# Altium footprint library Molex Footprints.PcbLib: 498 footprints (part 15 of 32)
Each footprint in its own frame and in the unit in brackets; x right, y up, seen from the top. Pads: shape width x height; smd on the part's side, far side on the other; paste and mask are expansions set on the pad; w line width, h text height; cw(c..) or ccw(c..) is an arc to the next point about the centre after c.
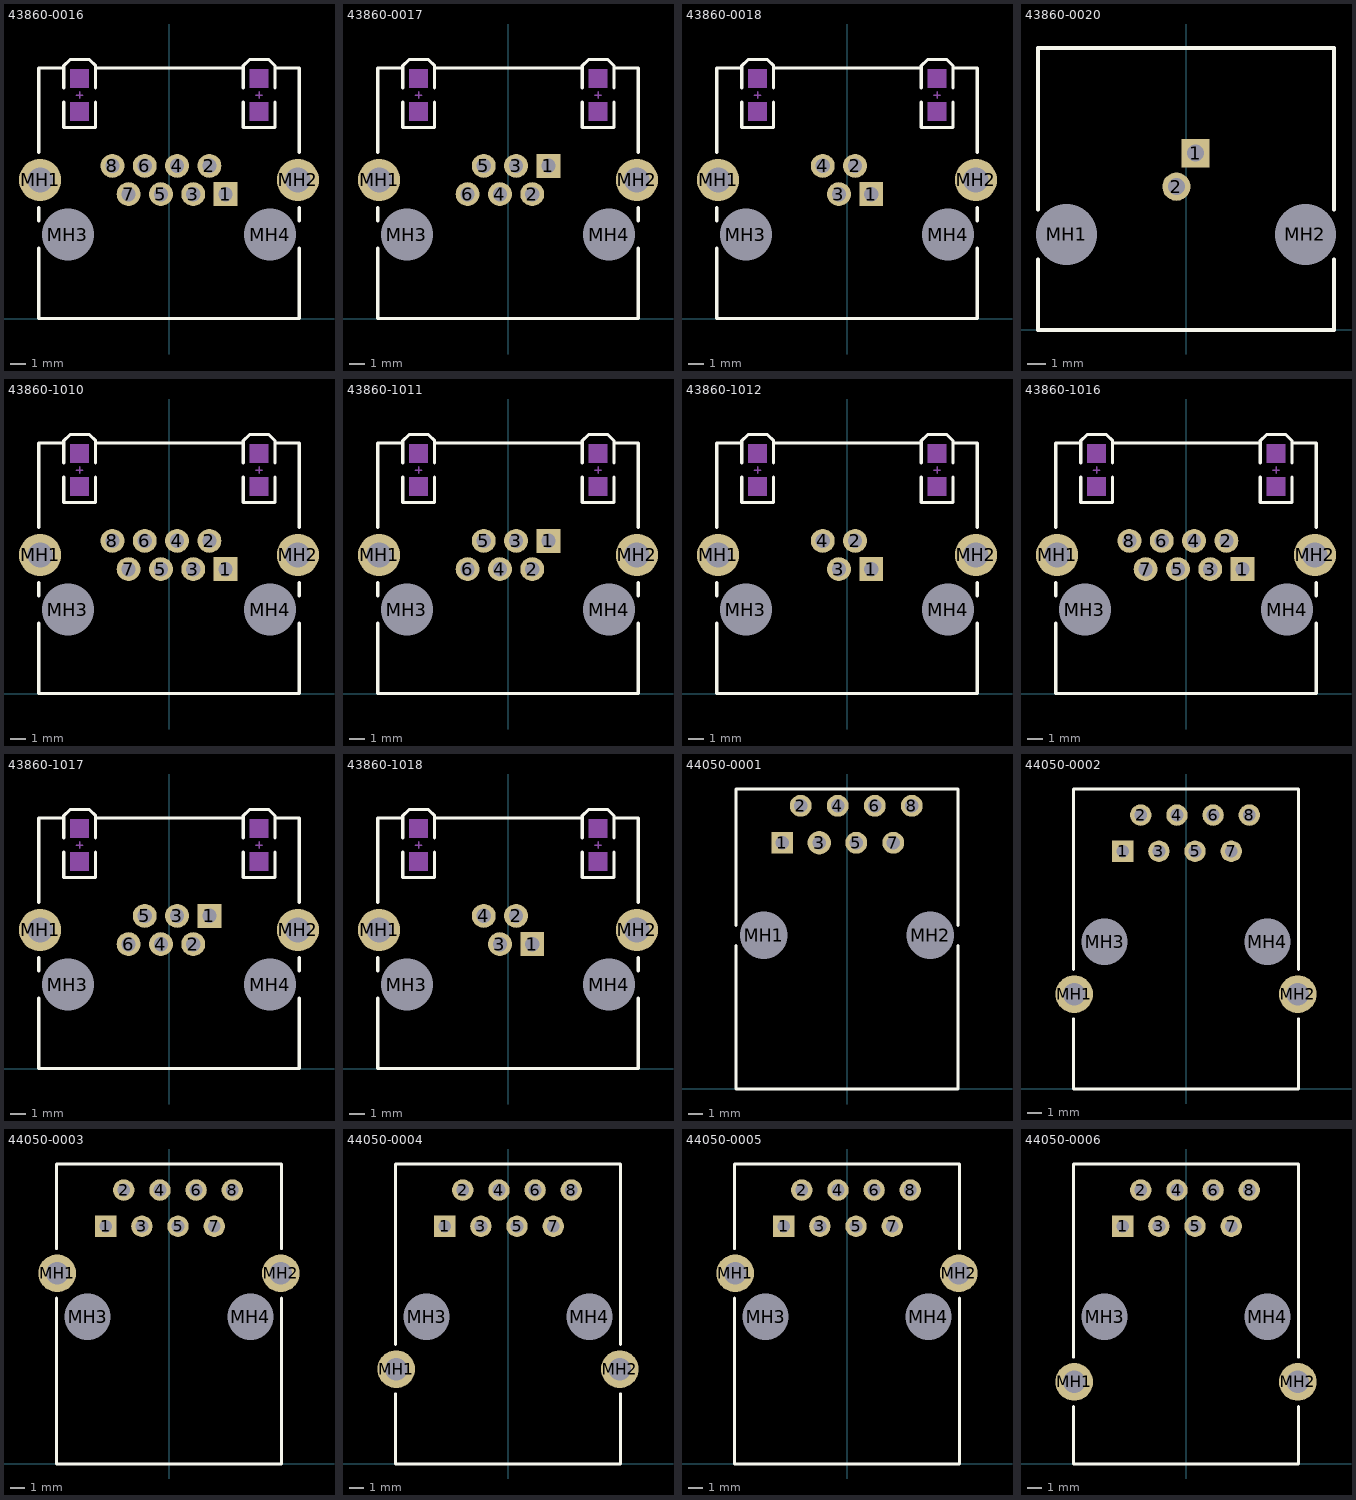
[diagram p14: the footprints below, top view; thin cyan lines are the x and y axes]

## 43860-0016 [mm] "Connector; PCB Jack, Thru-Hole; 1-Port, 8 Positions, 8 Loaded; Shielded with Lightpipes; Right Angle"
height 13.53
pads (12):
  rect 1.5x1.5 hole 0.9: 1(3.556,7.82)
  round 1.5 hole 0.9: 2(2.54,9.598) 3(1.524,7.82) 4(0.508,9.598) 5(-0.508,7.82) 6(-1.524,9.598) 7(-2.54,7.82) 8(-3.556,9.598)
  round 2.65 hole 1.6: MH1(-8.103,8.709) MH2(8.103,8.709)
  round 2.95 hole 3.25 unplated: MH3(-6.35,5.28) MH4(6.35,5.28)
Top Overlay:
  lines w0.2: -8.19,4.434 -8.19,0 8.19,0 8.19,4.434 ; -8.19,6.126 -8.19,6.986 ; -8.19,10.432 -8.19,15.75 -6.613,15.75 ; -6.613,13.602 -6.613,12.002 -4.613,12.002 -4.613,13.602 ; -6.613,14.484 -6.613,15.884 -6.213,16.284 -5.013,16.284 -4.613,15.884 -4.613,14.484 ; -4.613,15.75 4.664,15.75 ; 4.664,13.602 4.664,12.002 6.664,12.002 6.664,13.602 ; 4.664,14.484 4.664,15.884 5.064,16.284 6.264,16.284 6.664,15.884 6.664,14.484 ; 6.664,15.75 8.19,15.75 8.19,10.432 ; 8.19,6.126 8.19,6.986
Mechanical 1:
  rectangle: -6.213,12.402 -5.013,13.602
  rectangle: -6.213,14.484 -5.013,15.684
  rectangle: 5.064,12.402 6.264,13.602
  rectangle: 5.064,14.484 6.264,15.684
  lines w0.1: -5.813,14.043 -5.613,14.043 ; -5.613,13.843 -5.613,14.043 ; -5.613,14.243 -5.613,14.043 ; -5.413,14.043 -5.613,14.043 ; 5.464,14.043 5.664,14.043 ; 5.664,13.843 5.664,14.043 ; 5.664,14.243 5.664,14.043 ; 5.864,14.043 5.664,14.043

## 43860-0017 [mm] "Connector; PCB Jack, Thru-Hole; 1-Port, 6 Positions, 6 Loaded; Shielded with Lightpipes; Right Angle"
height 13.53
pads (10):
  rect 1.5x1.5 hole 0.9: 1(2.54,9.598)
  round 1.5 hole 0.9: 2(1.524,7.82) 3(0.508,9.598) 4(-0.508,7.82) 5(-1.524,9.598) 6(-2.54,7.82)
  round 2.65 hole 1.6: MH1(-8.103,8.709) MH2(8.103,8.709)
  round 2.95 hole 3.25 unplated: MH3(-6.35,5.28) MH4(6.35,5.28)
Top Overlay:
  lines w0.2: -8.19,4.434 -8.19,0 8.19,0 8.19,4.434 ; -8.19,6.126 -8.19,6.986 ; -8.19,10.432 -8.19,15.75 -6.613,15.75 ; -6.613,13.602 -6.613,12.002 -4.613,12.002 -4.613,13.602 ; -6.613,14.484 -6.613,15.884 -6.213,16.284 -5.013,16.284 -4.613,15.884 -4.613,14.484 ; -4.613,15.75 4.664,15.75 ; 4.664,13.602 4.664,12.002 6.664,12.002 6.664,13.602 ; 4.664,14.484 4.664,15.884 5.064,16.284 6.264,16.284 6.664,15.884 6.664,14.484 ; 6.664,15.75 8.19,15.75 8.19,10.432 ; 8.19,6.126 8.19,6.986
Mechanical 1:
  rectangle: 5.064,14.484 6.264,15.684
  rectangle: 5.064,12.402 6.264,13.602
  rectangle: -6.213,14.484 -5.013,15.684
  rectangle: -6.213,12.402 -5.013,13.602
  lines w0.1: -5.813,14.043 -5.613,14.043 ; -5.613,13.843 -5.613,14.043 ; -5.613,14.243 -5.613,14.043 ; -5.413,14.043 -5.613,14.043 ; 5.464,14.043 5.664,14.043 ; 5.664,13.843 5.664,14.043 ; 5.664,14.243 5.664,14.043 ; 5.864,14.043 5.664,14.043

## 43860-0018 [mm] "Connector; PCB Jack, Thru-Hole; 1-Port, 6 Positions, 4 Loaded; Shielded with Lightpipes; Right Angle"
height 13.53
pads (8):
  rect 1.5x1.5 hole 0.9: 1(1.524,7.82)
  round 1.5 hole 0.9: 2(0.508,9.598) 3(-0.508,7.82) 4(-1.524,9.598)
  round 2.65 hole 1.6: MH1(-8.103,8.709) MH2(8.103,8.709)
  round 2.95 hole 3.25 unplated: MH3(-6.35,5.28) MH4(6.35,5.28)
Top Overlay:
  lines w0.2: -8.19,4.434 -8.19,0 8.19,0 8.19,4.434 ; -8.19,6.126 -8.19,6.986 ; -8.19,10.432 -8.19,15.75 -6.613,15.75 ; -6.613,13.602 -6.613,12.002 -4.613,12.002 -4.613,13.602 ; -6.613,14.484 -6.613,15.884 -6.213,16.284 -5.013,16.284 -4.613,15.884 -4.613,14.484 ; -4.613,15.75 4.664,15.75 ; 4.664,13.602 4.664,12.002 6.664,12.002 6.664,13.602 ; 4.664,14.484 4.664,15.884 5.064,16.284 6.264,16.284 6.664,15.884 6.664,14.484 ; 6.664,15.75 8.19,15.75 8.19,10.432 ; 8.19,6.126 8.19,6.986
Mechanical 1:
  rectangle: 5.064,14.484 6.264,15.684
  rectangle: 5.064,12.402 6.264,13.602
  rectangle: -6.213,14.484 -5.013,15.684
  rectangle: -6.213,12.402 -5.013,13.602
  lines w0.1: -5.813,14.043 -5.613,14.043 ; -5.613,13.843 -5.613,14.043 ; -5.613,14.243 -5.613,14.043 ; -5.413,14.043 -5.613,14.043 ; 5.464,14.043 5.664,14.043 ; 5.664,13.843 5.664,14.043 ; 5.664,14.243 5.664,14.043 ; 5.864,14.043 5.664,14.043

## 43860-0020 [mm] "Connector; PCB Jack, Thru-Hole; 1-Port, 6 Positions, 2 Loaded; Unshielded without Lightpipes; Right Angle"
height 13.21
pads (4):
  rect 1.5x1.5 hole 0.9: 1(0.508,9.398)
  round 1.5 hole 0.9: 2(-0.508,7.62)
  round 2.95 hole 3.25 unplated: MH1(-6.35,5.08) MH2(6.35,5.08)
Top Overlay:
  lines w0.2: -7.875,3.748 -7.875,0 7.875,0 7.875,3.748 ; -7.875,6.412 -7.875,14.99 7.875,14.99 7.875,6.412

## 43860-1010 [mm] "Connector; PCB Jack, Thru-Hole; 1-Port, 8 Positions, 8 Loaded; Shielded with Lightpipes; Right Angle"
height 13.54
pads (12):
  rect 1.5x1.5 hole 0.9: 1(3.556,7.82)
  round 1.5 hole 0.9: 2(2.54,9.598) 3(1.524,7.82) 4(0.508,9.598) 5(-0.508,7.82) 6(-1.524,9.598) 7(-2.54,7.82) 8(-3.556,9.598)
  round 2.65 hole 1.6: MH1(-8.103,8.709) MH2(8.103,8.709)
  round 2.95 hole 3.25 unplated: MH3(-6.35,5.28) MH4(6.35,5.28)
Top Overlay:
  lines w0.2: -8.19,4.434 -8.19,0 8.19,0 8.19,4.434 ; -8.19,6.126 -8.19,6.986 ; -8.19,10.432 -8.19,15.75 -6.613,15.75 ; -6.613,13.602 -6.613,12.002 -4.613,12.002 -4.613,13.602 ; -6.613,14.484 -6.613,15.884 -6.213,16.284 -5.013,16.284 -4.613,15.884 -4.613,14.484 ; -4.613,15.75 4.664,15.75 ; 4.664,13.602 4.664,12.002 6.664,12.002 6.664,13.602 ; 4.664,14.484 4.664,15.884 5.064,16.284 6.264,16.284 6.664,15.884 6.664,14.484 ; 6.664,15.75 8.19,15.75 8.19,10.432 ; 8.19,6.126 8.19,6.986
Mechanical 1:
  rectangle: -6.213,12.402 -5.013,13.602
  rectangle: -6.213,14.484 -5.013,15.684
  rectangle: 5.064,12.402 6.264,13.602
  rectangle: 5.064,14.484 6.264,15.684
  lines w0.1: -5.813,14.043 -5.613,14.043 ; -5.613,13.843 -5.613,14.043 ; -5.613,14.243 -5.613,14.043 ; -5.413,14.043 -5.613,14.043 ; 5.464,14.043 5.664,14.043 ; 5.664,13.843 5.664,14.043 ; 5.664,14.243 5.664,14.043 ; 5.864,14.043 5.664,14.043

## 43860-1011 [mm] "Connector; PCB Jack, Thru-Hole; 1-Port, 6 Positions, 6 Loaded; Shielded with Lightpipes; Right Angle"
height 13.54
pads (10):
  rect 1.5x1.5 hole 0.9: 1(2.54,9.598)
  round 1.5 hole 0.9: 2(1.524,7.82) 3(0.508,9.598) 4(-0.508,7.82) 5(-1.524,9.598) 6(-2.54,7.82)
  round 2.65 hole 1.6: MH1(-8.103,8.709) MH2(8.103,8.709)
  round 2.95 hole 3.25 unplated: MH3(-6.35,5.28) MH4(6.35,5.28)
Top Overlay:
  lines w0.2: -8.19,4.434 -8.19,0 8.19,0 8.19,4.434 ; -8.19,6.126 -8.19,6.986 ; -8.19,10.432 -8.19,15.75 -6.613,15.75 ; -6.613,13.602 -6.613,12.002 -4.613,12.002 -4.613,13.602 ; -6.613,14.484 -6.613,15.884 -6.213,16.284 -5.013,16.284 -4.613,15.884 -4.613,14.484 ; -4.613,15.75 4.664,15.75 ; 4.664,13.602 4.664,12.002 6.664,12.002 6.664,13.602 ; 4.664,14.484 4.664,15.884 5.064,16.284 6.264,16.284 6.664,15.884 6.664,14.484 ; 6.664,15.75 8.19,15.75 8.19,10.432 ; 8.19,6.126 8.19,6.986
Mechanical 1:
  rectangle: 5.064,14.484 6.264,15.684
  rectangle: 5.064,12.402 6.264,13.602
  rectangle: -6.213,14.484 -5.013,15.684
  rectangle: -6.213,12.402 -5.013,13.602
  lines w0.1: -5.813,14.043 -5.613,14.043 ; -5.613,13.843 -5.613,14.043 ; -5.613,14.243 -5.613,14.043 ; -5.413,14.043 -5.613,14.043 ; 5.464,14.043 5.664,14.043 ; 5.664,13.843 5.664,14.043 ; 5.664,14.243 5.664,14.043 ; 5.864,14.043 5.664,14.043

## 43860-1012 [mm] "Connector; PCB Jack, Thru-Hole; 1-Port, 6 Positions, 4 Loaded; Shielded with Lightpipes; Right Angle"
height 13.54
pads (8):
  rect 1.5x1.5 hole 0.9: 1(1.524,7.82)
  round 1.5 hole 0.9: 2(0.508,9.598) 3(-0.508,7.82) 4(-1.524,9.598)
  round 2.65 hole 1.6: MH1(-8.103,8.709) MH2(8.103,8.709)
  round 2.95 hole 3.25 unplated: MH3(-6.35,5.28) MH4(6.35,5.28)
Top Overlay:
  lines w0.2: -8.19,4.434 -8.19,0 8.19,0 8.19,4.434 ; -8.19,6.126 -8.19,6.986 ; -8.19,10.432 -8.19,15.75 -6.613,15.75 ; -6.613,13.602 -6.613,12.002 -4.613,12.002 -4.613,13.602 ; -6.613,14.484 -6.613,15.884 -6.213,16.284 -5.013,16.284 -4.613,15.884 -4.613,14.484 ; -4.613,15.75 4.664,15.75 ; 4.664,13.602 4.664,12.002 6.664,12.002 6.664,13.602 ; 4.664,14.484 4.664,15.884 5.064,16.284 6.264,16.284 6.664,15.884 6.664,14.484 ; 6.664,15.75 8.19,15.75 8.19,10.432 ; 8.19,6.126 8.19,6.986
Mechanical 1:
  rectangle: 5.064,14.484 6.264,15.684
  rectangle: 5.064,12.402 6.264,13.602
  rectangle: -6.213,14.484 -5.013,15.684
  rectangle: -6.213,12.402 -5.013,13.602
  lines w0.1: -5.813,14.043 -5.613,14.043 ; -5.613,13.843 -5.613,14.043 ; -5.613,14.243 -5.613,14.043 ; -5.413,14.043 -5.613,14.043 ; 5.464,14.043 5.664,14.043 ; 5.664,13.843 5.664,14.043 ; 5.664,14.243 5.664,14.043 ; 5.864,14.043 5.664,14.043

## 43860-1016 [mm] "Connector; PCB Jack, Thru-Hole; 1-Port, 8 Positions, 8 Loaded; Shielded with Lightpipes; Right Angle"
height 13.54
pads (12):
  rect 1.5x1.5 hole 0.9: 1(3.556,7.82)
  round 1.5 hole 0.9: 2(2.54,9.598) 3(1.524,7.82) 4(0.508,9.598) 5(-0.508,7.82) 6(-1.524,9.598) 7(-2.54,7.82) 8(-3.556,9.598)
  round 2.65 hole 1.6: MH1(-8.103,8.709) MH2(8.103,8.709)
  round 2.95 hole 3.25 unplated: MH3(-6.35,5.28) MH4(6.35,5.28)
Top Overlay:
  lines w0.2: -8.19,4.434 -8.19,0 8.19,0 8.19,4.434 ; -8.19,6.126 -8.19,6.986 ; -8.19,10.432 -8.19,15.75 -6.613,15.75 ; -6.613,13.602 -6.613,12.002 -4.613,12.002 -4.613,13.602 ; -6.613,14.484 -6.613,15.884 -6.213,16.284 -5.013,16.284 -4.613,15.884 -4.613,14.484 ; -4.613,15.75 4.664,15.75 ; 4.664,13.602 4.664,12.002 6.664,12.002 6.664,13.602 ; 4.664,14.484 4.664,15.884 5.064,16.284 6.264,16.284 6.664,15.884 6.664,14.484 ; 6.664,15.75 8.19,15.75 8.19,10.432 ; 8.19,6.126 8.19,6.986
Mechanical 1:
  rectangle: -6.213,12.402 -5.013,13.602
  rectangle: -6.213,14.484 -5.013,15.684
  rectangle: 5.064,12.402 6.264,13.602
  rectangle: 5.064,14.484 6.264,15.684
  lines w0.1: -5.813,14.043 -5.613,14.043 ; -5.613,13.843 -5.613,14.043 ; -5.613,14.243 -5.613,14.043 ; -5.413,14.043 -5.613,14.043 ; 5.464,14.043 5.664,14.043 ; 5.664,13.843 5.664,14.043 ; 5.664,14.243 5.664,14.043 ; 5.864,14.043 5.664,14.043

## 43860-1017 [mm] "Connector; PCB Jack, Thru-Hole; 1-Port, 6 Positions, 6 Loaded; Shielded with Lightpipes; Right Angle"
height 13.54
pads (10):
  rect 1.5x1.5 hole 0.9: 1(2.54,9.598)
  round 1.5 hole 0.9: 2(1.524,7.82) 3(0.508,9.598) 4(-0.508,7.82) 5(-1.524,9.598) 6(-2.54,7.82)
  round 2.65 hole 1.6: MH1(-8.103,8.709) MH2(8.103,8.709)
  round 2.95 hole 3.25 unplated: MH3(-6.35,5.28) MH4(6.35,5.28)
Top Overlay:
  lines w0.2: -8.19,4.434 -8.19,0 8.19,0 8.19,4.434 ; -8.19,6.126 -8.19,6.986 ; -8.19,10.432 -8.19,15.75 -6.613,15.75 ; -6.613,13.602 -6.613,12.002 -4.613,12.002 -4.613,13.602 ; -6.613,14.484 -6.613,15.884 -6.213,16.284 -5.013,16.284 -4.613,15.884 -4.613,14.484 ; -4.613,15.75 4.664,15.75 ; 4.664,13.602 4.664,12.002 6.664,12.002 6.664,13.602 ; 4.664,14.484 4.664,15.884 5.064,16.284 6.264,16.284 6.664,15.884 6.664,14.484 ; 6.664,15.75 8.19,15.75 8.19,10.432 ; 8.19,6.126 8.19,6.986
Mechanical 1:
  rectangle: 5.064,14.484 6.264,15.684
  rectangle: 5.064,12.402 6.264,13.602
  rectangle: -6.213,14.484 -5.013,15.684
  rectangle: -6.213,12.402 -5.013,13.602
  lines w0.1: -5.813,14.043 -5.613,14.043 ; -5.613,13.843 -5.613,14.043 ; -5.613,14.243 -5.613,14.043 ; -5.413,14.043 -5.613,14.043 ; 5.464,14.043 5.664,14.043 ; 5.664,13.843 5.664,14.043 ; 5.664,14.243 5.664,14.043 ; 5.864,14.043 5.664,14.043

## 43860-1018 [mm] "Connector; PCB Jack, Thru-Hole; 1-Port, 6 Positions, 4 Loaded; Shielded with Lightpipes; Right Angle"
height 13.54
pads (8):
  rect 1.5x1.5 hole 0.9: 1(1.524,7.82)
  round 1.5 hole 0.9: 2(0.508,9.598) 3(-0.508,7.82) 4(-1.524,9.598)
  round 2.65 hole 1.6: MH1(-8.103,8.709) MH2(8.103,8.709)
  round 2.95 hole 3.25 unplated: MH3(-6.35,5.28) MH4(6.35,5.28)
Top Overlay:
  lines w0.2: -8.19,4.434 -8.19,0 8.19,0 8.19,4.434 ; -8.19,6.126 -8.19,6.986 ; -8.19,10.432 -8.19,15.75 -6.613,15.75 ; -6.613,13.602 -6.613,12.002 -4.613,12.002 -4.613,13.602 ; -6.613,14.484 -6.613,15.884 -6.213,16.284 -5.013,16.284 -4.613,15.884 -4.613,14.484 ; -4.613,15.75 4.664,15.75 ; 4.664,13.602 4.664,12.002 6.664,12.002 6.664,13.602 ; 4.664,14.484 4.664,15.884 5.064,16.284 6.264,16.284 6.664,15.884 6.664,14.484 ; 6.664,15.75 8.19,15.75 8.19,10.432 ; 8.19,6.126 8.19,6.986
Mechanical 1:
  rectangle: 5.064,14.484 6.264,15.684
  rectangle: 5.064,12.402 6.264,13.602
  rectangle: -6.213,14.484 -5.013,15.684
  rectangle: -6.213,12.402 -5.013,13.602
  lines w0.1: -5.813,14.043 -5.613,14.043 ; -5.613,13.843 -5.613,14.043 ; -5.613,14.243 -5.613,14.043 ; -5.413,14.043 -5.613,14.043 ; 5.464,14.043 5.664,14.043 ; 5.664,13.843 5.664,14.043 ; 5.664,14.243 5.664,14.043 ; 5.864,14.043 5.664,14.043

## 44050-0001 [mm] "Connector; PCB Jack, Thru-Hole; 1-Port, 8 Positions, 8 Loaded; Unshielded without Lightpipes; Right Angle"
height 12.83
pads (10):
  rect 1.5x1.5 hole 0.9: 1(-4.445,16.89)
  round 1.5 hole 0.9: 2(-3.175,19.43) 4(-0.635,19.43) 5(0.635,16.89) 6(1.905,19.43) 7(3.175,16.89) 8(4.445,19.43)
  round 1.6 hole 0.9: 3(-1.905,16.89)
  round 2.95 hole 3.25 unplated: MH1(-5.715,10.54) MH2(5.715,10.54)
Top Overlay:
  lines w0.2: -7.62,9.853 -7.62,0 7.62,0 7.62,9.853 ; -7.62,11.227 -7.62,20.58 7.62,20.58 7.62,11.227

## 44050-0002 [mm] "Connector; PCB Jack, Thru-Hole; 1-Port, 8 Positions, 8 Loaded; Shielded without Lightpipes; Right Angle"
height 13.08
pads (12):
  rect 1.5x1.5 hole 0.9: 1(-4.445,16.69)
  round 1.5 hole 0.9: 2(-3.175,19.23) 3(-1.905,16.69) 4(-0.635,19.23) 5(0.635,16.69) 6(1.905,19.23) 7(3.175,16.69) 8(4.445,19.23)
  round 2.65 hole 1.6: MH1(-7.849,6.657) MH2(7.849,6.657)
  round 2.95 hole 3.25 unplated: MH3(-5.715,10.34) MH4(5.715,10.34)
Top Overlay:
  lines w0.2: -7.9,4.933 -7.9,0 7.9,0 7.9,4.933 ; -7.9,8.381 -7.9,21.06 7.9,21.06 7.9,8.381

## 44050-0003 [mm] "Connector; PCB Jack, Thru-Hole; 1-Port, 8 Positions, 8 Loaded; Shielded without Lightpipes; Right Angle"
height 13.08
pads (12):
  rect 1.5x1.5 hole 0.9: 1(-4.445,16.69)
  round 1.5 hole 0.9: 2(-3.175,19.23) 3(-1.905,16.69) 4(-0.635,19.23) 5(0.635,16.69) 6(1.905,19.23) 7(3.175,16.69) 8(4.445,19.23)
  round 2.65 hole 1.6: MH1(-7.849,13.388) MH2(7.849,13.388)
  round 2.95 hole 3.25 unplated: MH3(-5.715,10.34) MH4(5.715,10.34)
Top Overlay:
  lines w0.2: -7.9,11.664 -7.9,0 7.9,0 7.9,11.664 ; -7.9,15.112 -7.9,21.06 7.9,21.06 7.9,15.112

## 44050-0004 [mm] "Connector; PCB Jack, Thru-Hole; 1-Port, 8 Positions, 8 Loaded; Shielded without Lightpipes; Right Angle"
height 13.08
pads (12):
  rect 1.5x1.5 hole 0.9: 1(-4.445,16.69)
  round 1.5 hole 0.9: 2(-3.175,19.23) 3(-1.905,16.69) 4(-0.635,19.23) 5(0.635,16.69) 6(1.905,19.23) 7(3.175,16.69) 8(4.445,19.23)
  round 2.65 hole 1.6: MH1(-7.849,6.657) MH2(7.849,6.657)
  round 2.95 hole 3.25 unplated: MH3(-5.715,10.34) MH4(5.715,10.34)
Top Overlay:
  lines w0.2: -7.9,4.933 -7.9,0 7.9,0 7.9,4.933 ; -7.9,8.381 -7.9,21.06 7.9,21.06 7.9,8.381

## 44050-0005 [mm] "Connector; PCB Jack, Thru-Hole; 1-Port, 8 Positions, 8 Loaded; Shielded without Lightpipes; Right Angle"
height 13.08
pads (12):
  rect 1.5x1.5 hole 0.9: 1(-4.445,16.69)
  round 1.5 hole 0.9: 2(-3.175,19.23) 3(-1.905,16.69) 4(-0.635,19.23) 5(0.635,16.69) 6(1.905,19.23) 7(3.175,16.69) 8(4.445,19.23)
  round 2.65 hole 1.6: MH1(-7.849,13.388) MH2(7.849,13.388)
  round 2.95 hole 3.25 unplated: MH3(-5.715,10.34) MH4(5.715,10.34)
Top Overlay:
  lines w0.2: -7.9,11.664 -7.9,0 7.9,0 7.9,11.664 ; -7.9,15.112 -7.9,21.06 7.9,21.06 7.9,15.112

## 44050-0006 [mm] "Connector; PCB Jack, Thru-Hole; 1-Port, 8 Positions, 8 Loaded; Shielded without Lightpipes; Right Angle"
height 13.08
pads (12):
  rect 1.5x1.5 hole 0.9: 1(-4.445,16.69)
  round 1.5 hole 0.9: 2(-3.175,19.23) 3(-1.905,16.69) 4(-0.635,19.23) 5(0.635,16.69) 6(1.905,19.23) 7(3.175,16.69) 8(4.445,19.23)
  round 2.65 hole 1.6: MH1(-7.849,5.768) MH2(7.849,5.768)
  round 2.95 hole 3.25 unplated: MH3(-5.715,10.34) MH4(5.715,10.34)
Top Overlay:
  lines w0.2: -7.9,4.044 -7.9,0 7.9,0 7.9,4.044 ; -7.9,7.492 -7.9,21.06 7.9,21.06 7.9,7.492